# EAGLE library part 505110-1297 (library SamacSys_Parts)
Easy-On FFC/FPC Connector, 0.50mm Pitch, FD19 Series, Right-Angle, Bottom Contact, 1.90mm Height, Circuits, Gold over Nickel Plating Source: Datasheet <https://www.molex.com/pdm_docs/sd/5051101297_sd.pdf>
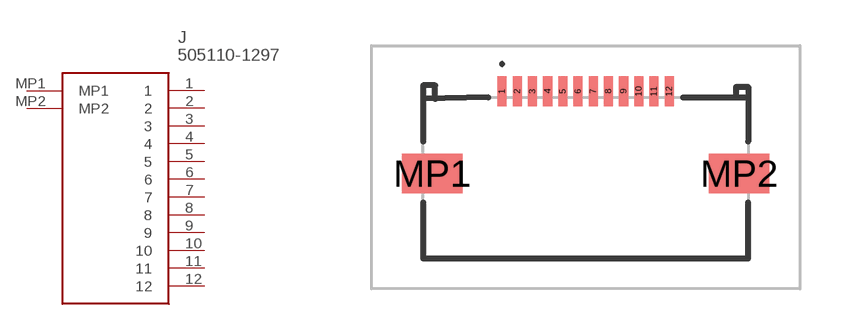
[diagram p31: symbol with the pads of 5051101297; footprint 5051101297]

Designator prefix J

## 505110-1297 (DESCRIPTION: Easy-On FFC/FPC Connector, 0.50mm Pitch, FD19 Series, Right-Angle, Bottom Contact, 1.90mm Height, Circuits, Gold over Nickel Plating; HEIGHT: 2.1mm; MANUFACTURER_NAME: Molex; MANUFACTURER_PART_NUMBER: 505110-1297; MOUSER_PART_NUMBER: 538-505110-1297; MOUSER_PRICE-STOCK: https://www.mouser.co.uk/ProductDetail/Molex/505110-1297?qs=W0yvOO0ixfGYeJVj%2FXWh6w%3D%3D)  [5051101297]
1  1
2  2
3  3
4  4
5  5
6  6
7  7
8  8
9  9
10  10
11  11
12  12
MP1  MP1
MP2  MP2

## Footprint 5051101297 (pad centres in mm)
505110-1297-2
smd 0.3 x 1: 1 -2.75,2.655; 2 -2.25,2.655; 3 -1.75,2.655; 4 -1.25,2.655; 5 -0.75,2.655; 6 -0.25,2.655; 7 0.25,2.655; 8 0.75,2.655; 9 1.25,2.655; 10 1.75,2.655; 11 2.25,2.655; 12 2.75,2.655
smd 2 x 1.3: MP1 -5.05,-0.045; MP2 5.05,-0.045